# Altium footprint library myLIB.PcbLib: 150 footprints (part 9 of 10)
Each footprint in its own frame and in the unit in brackets; x right, y up, seen from the top. Pads: shape width x height; smd on the part's side, far side on the other; paste and mask are expansions set on the pad; w line width, h text height; cw(c..) or ccw(c..) is an arc to the next point about the centre after c.
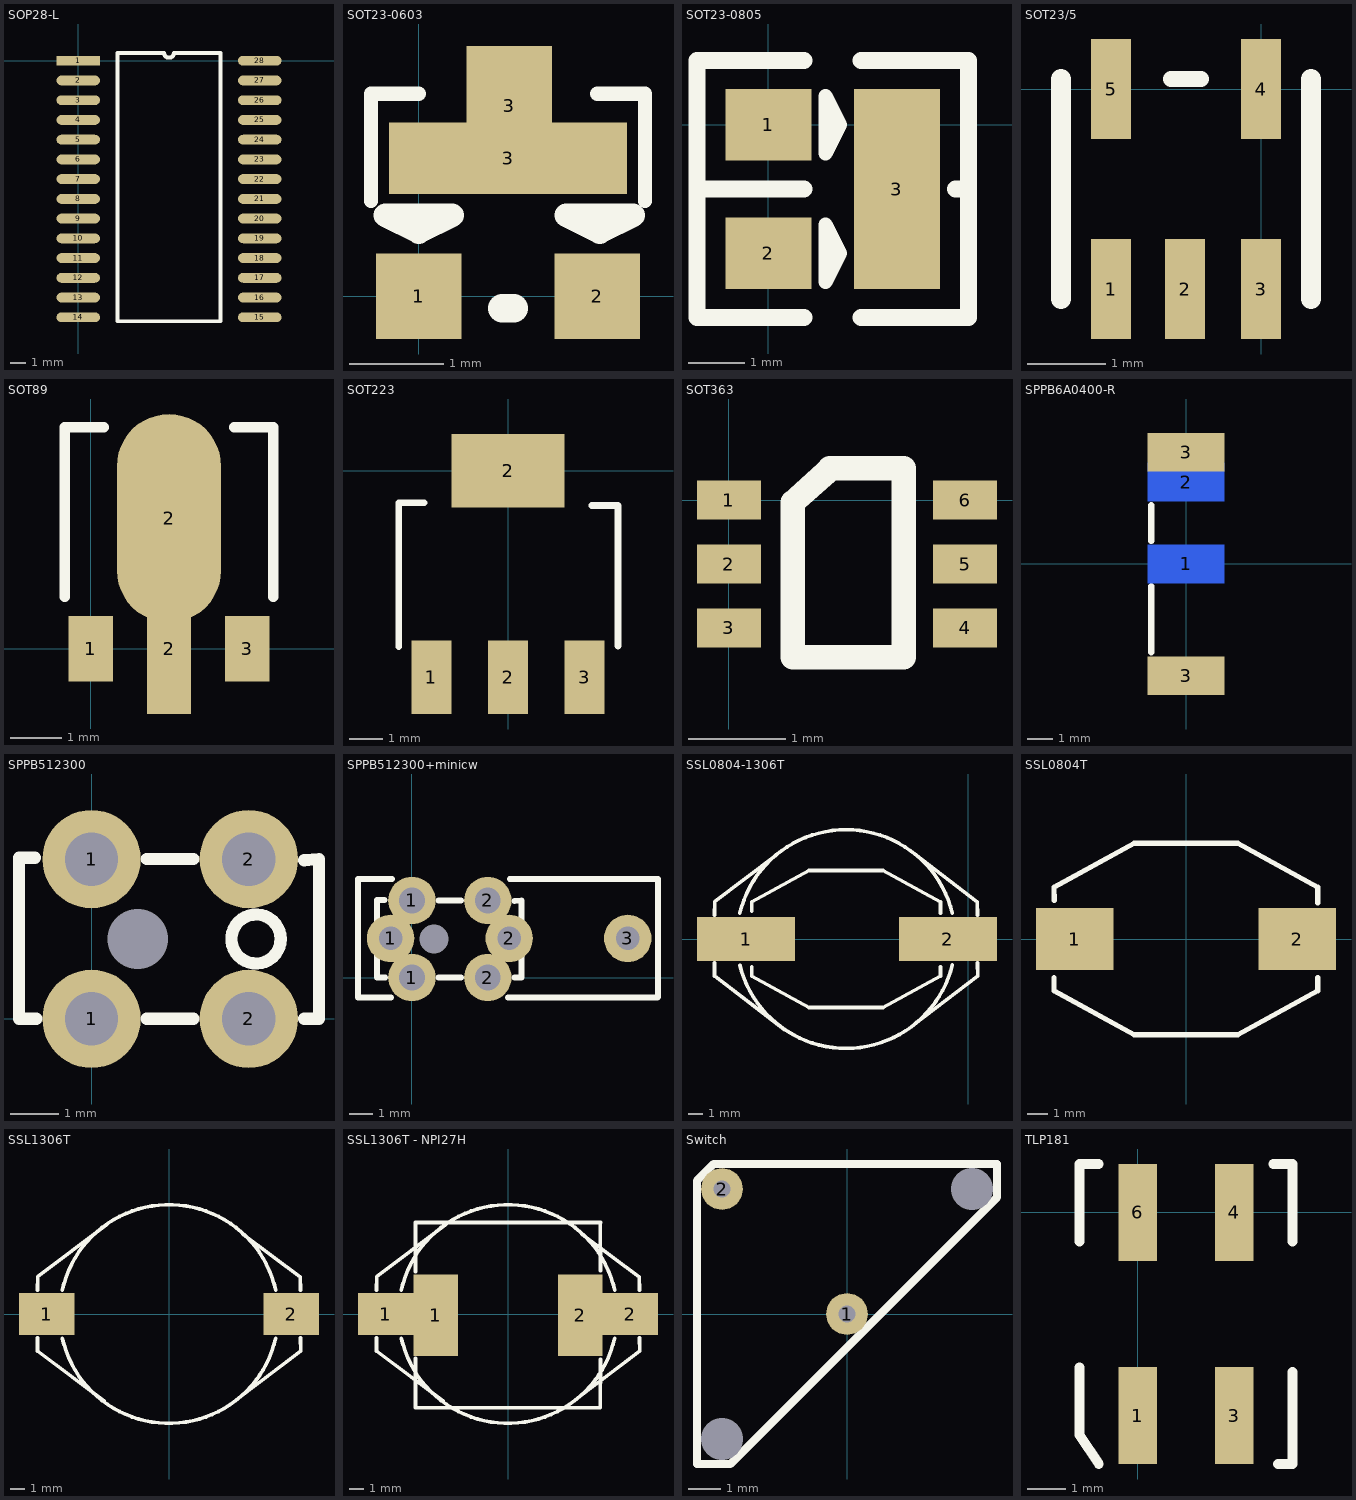
[diagram p8: the footprints below, top view; thin cyan lines are the x and y axes]

## SOP28-L [mil]
pads (28):
  rect 110x25 smd: 1(0,0)
  oval 110x25 smd: 2(0,-50) 3(0,-100) 4(0,-150) 5(0,-200) 6(0,-250) 7(0,-300) 8(0,-350) 9(0,-400) 10(0,-450) 11(0,-500) 12(0,-550) 13(0,-600) 14(0,-650) 15(460,-650) 16(460,-600) 17(460,-550) 18(460,-500) 19(460,-450) 20(460,-400) 21(460,-350) 22(460,-300) 23(460,-250) 24(460,-200) 25(460,-150) 26(460,-100) 27(460,-50) 28(460,0)
TopOverlay:
  lines w10: 100,-660 100,20 217.5,20 ccw(c230,20) 242.5,20 360,20 360,-660 100,-660

## SOT23-0603 [mil]
pads (4):
  rect 36x36 smd: 1(0,0) 2(75,0)
  rect 100x30 smd: 3(37.5,58)
  rect 36x50 smd: 3(38,80)
TopOverlay:
  lines w6: -20,40 -20,85 0,85 ; 75,85 95,85 95,40
  lines w10: -14,34 0,27 ; -14,34 14,34 ; -14,34 0,27 ; -14,34 14,34 ; 0,27 14,34 ; 0,27 14,34 ; 62,34 76,27 90,34 62,34
  lines w12: 35,-5 40,-5

## SOT23-0805 [mil]
pads (3):
  rect 60x50 smd: 1(0,0) 2(0,-90)
  rect 60x140 smd: 3(90,-45)
TopOverlay:
  lines w10: 40,-110 50,-90 40,-70 40,-110 ; 40,-20 50,0 40,20 40,-20
  lines w12: 25,-135 -50,-135 -50,-45 ; 25,45 -50,45 -50,-45 ; 65,-135 140,-135 140,-45 ; 65,45 140,45 140,-45 ; -50,-45 25,-45 -50,-45 ; 140,-45 131,-45 140,-45

## SOT23/5 [mil]
pads (5):
  rect 20x50 smd: 1(-75,-100) 2(-38,-100) 3(0,-100) 4(0,0) 5(-75,0)
TopOverlay:
  lines w7.87: -45,5 -30,5
  lines w10: -100,-105 -100,5 ; 25,-105 25,5

## SOT89 [mil]
pads (4):
  rect 34x50 smd: 1(0,0) 3(120,0)
  rect 34x100 smd: 2(60,0)
  oval 80x160 smd: 2(60,100)
TopOverlay:
  lines w8: -20,40 -20,170 10,170 ; 110,170 140,170 140,40

## SOT223 [mm]
pads (4):
  rect 1.2x2.2 smd: 1(-2.3,-6.2) 2(0,-6.2) 3(2.3,-6.2)
  rect 3.4x2.2 smd: 2(0,0)
TopOverlay:
  lines w0.203: -3.277,-5.283 -3.277,-0.965 -2.515,-0.965 ; 2.515,-1.041 3.277,-1.041 ; 3.302,-5.258 3.302,-1.041

## SOT363 [mil]
pads (6):
  rect 26x16 smd: 1(0,0) 2(0,-26) 3(0,-52) 4(96,-52) 5(96,-26) 6(96,0)
TopOverlay:
  lines w10: 41,13 71,13 71,-64 26,-64 26,-1 41.5,13

## SPPB6A0400-R [mil] "SPPB6A0400 SWITCH A NYÁK ÉLÉN"
pads (4):
  rect 120x60 smd far side: 1(0,0) 2(0,127.95)
  rect 120x60 smd: 3(0,-174.41) 3(0,174.41)
TopOverlay:
  lines w10: -54,-138 -54,-35 ; -54,36 -54,92

## SPPB512300 [mm] "SPPB series switch"
height 0.254
pads (5):
  round 0 hole 1.25: 0(0.95,1.65)
  round 2.032 hole 1.1: 1(0,0) 1(0,3.3) 2(3.25,0) 2(3.25,3.3)
TopOverlay:
  circle w0.254: c3.4,1.65 r0.508
  lines w0.254: -1.5,0 -1.5,3.3 ; -1.499,0 -1.143,0 ; -1.499,3.327 -1.168,3.327 ; 1.143,0 2.108,0 ; 1.143,3.302 2.108,3.302 ; 4.394,0 4.699,0 ; 4.394,3.277 4.699,3.302 ; 4.7,0 4.7,3.3

## SPPB512300+minicw [mil]
pads (8):
  round 0 hole 49.21: 0(37.4,64.96)
  round 80 hole 40: 1(-36,66) 2(164,66) 3(364,66)
  round 80 hole 43.31: 1(0,0) 1(0,129.92) 2(127.95,0) 2(127.95,129.92)
TopOverlay:
  lines w10: -59.06,0 -59.06,129.92 ; -59,0 -45,0 ; -59,131 -46,131 ; -35,-34 -91,-34 -91,166 -34,166 ; 45,0 83,0 ; 45,130 83,130 ; 162,-34 414,-34 415,-33 415,166 165,166 ; 173,0 185,0 ; 173,129 185,130 ; 185.04,0 185.04,129.92

## SSL0804-1306T [mil]
pads (2):
  rect 265x120 smd: 1(-600,0) 2(-55,0)
TopOverlay:
  lines w10: -685,-65 -685,-100 -495,-245 ; -685,65 -684.33,100 -684.33,100.67 -520,225 ; -616.75,70.43 cw(c-330,0) -43.25,70.43 ; -616.46,-71.61 ccw(c-330,0) -42.97,-69.28 ; -585,-75 -585,-100 -430,-185 -230,-185 -75.28,-100 -75.28,-75 ; -584.72,75 -585,100 -430,185.04 -230,185.04 -75.28,100 -75.28,70 ; -145,-230 25.67,-100 25,-65 ; -145,230 24.33,100 25,65

## SSL0804T [mil]
pads (2):
  rect 150x120 smd: 1(-215,0) 2(215,0)
TopOverlay:
  lines w10: -255,-75 -255,-100 -100,-185 100,-185 254.72,-100 254.72,-75 ; -254.72,75 -255,100 -100,185.04 100,185.04 254.72,100 254.72,70

## SSL1306T [mil]
pads (2):
  rect 150x114.17 smd: 1(-330,0) 2(330,0)
TopOverlay:
  lines w10: -355,-65 -355,-100 -175,-235 ; -355,65 -354.33,100 -354.33,100.67 -170,240 ; -288.03,65.01 cw(c0,0) 288.06,64.89 ; -288.01,-65.1 ccw(c0,0) 287.96,-65.31 ; 185,-230 355.67,-100 355,-65 ; 200,215 354.33,100 355,65

## SSL1306T - NPI27H [mil]
pads (4):
  rect 150x114.17 smd: 1(-330,0) 2(330,0)
  rect 120x220 smd: 1(-195,-3) 2(195,-3)
TopOverlay:
  lines w10: -355,-65 -355,-100 -175,-235 ; -355,65 -354.33,100 -354.33,100.67 -170,240 ; -288.03,65.01 cw(c0,0) 288.06,64.89 ; -288.01,-65.1 ccw(c0,0) 287.96,-65.31 ; -250,-120 -250,-253 249,-253 250,-123 ; -250,115 -250,247 250,247 249,246 250,117 ; 185,-230 355.67,-100 355,-65 ; 200,215 354.33,100 355,65

## Switch [mil]
pads (4):
  round 0 hole 50: 0(-150,-150) 0(150,150)
  round 50 hole 20: 1(0,0) 2(-150,150)
TopOverlay:
  lines w10: -180,-180 -140,-180 180,140 180,180 -160,180 -180,160 -180,-180

## TLP181 [mil]
pads (4):
  rect 40x100 smd: 1(0,-210) 3(100,-210) 4(100,0) 6(0,0)
TopOverlay:
  lines w10: -60,-160 -60,-230 -40,-260 ; -60,-30 -60,50 -40,50 ; 140,50 160,50 160,-30 ; 145,-260 160,-260 160,-165